# Altium footprint library CONN-TH_4P-P2.50_HCTL_HC-XHB-4A.PcbLib: 1 footprints
Each footprint in its own frame and in the unit in brackets; x right, y up, seen from the top. Pads: shape width x height; smd on the part's side, far side on the other; paste and mask are expansions set on the pad; w line width, h text height; cw(c..) or ccw(c..) is an arc to the next point about the centre after c.
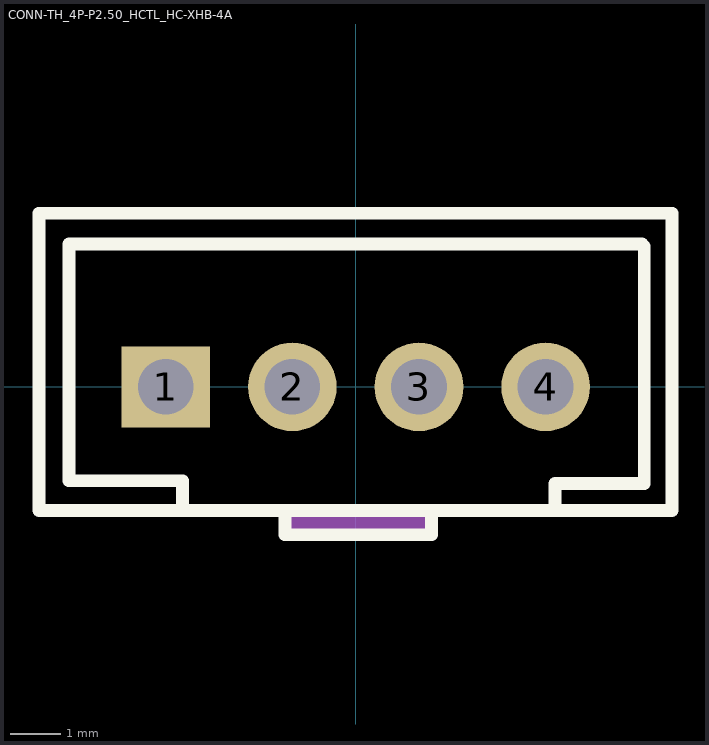
[diagram p0: the footprint, top view; thin cyan lines are the x and y axes]

## CONN-TH_4P-P2.50_HCTL_HC-XHB-4A [mm]
pads (4):
  rect 1.75x1.6 / inner round 1.524 / far side round 1.524 hole 1.1: 1(-3.75,0)
  round 1.75 / inner round 1.524 / far side round 1.524 hole 1.1: 2(-1.25,0) 3(1.25,0) 4(3.75,0)
Top Overlay:
  lines w0.254: -6.25,-2.438 6.25,-2.444 6.25,3.429 -6.25,3.429 ; -6.25,-2.432 -6.25,3.368 ; -5.657,2.819 -5.657,-1.854 -3.422,-1.854 -3.422,-2.388 ; -5.652,2.819 5.652,2.819 ; -1.397,-2.441 -1.397,-2.921 1.499,-2.921 1.499,-2.44 ; 3.937,-2.438 3.937,-1.905 5.664,-1.905 ; 5.699,-1.905 5.699,2.774
Mechanical 6:
  region: -1.397,-2.413 1.524,-2.413 1.524,-2.921 -1.397,-2.921
Mechanical 15:
  region: -6.185,-2.417 -6.204,-2.371 -6.25,-2.352 -6.296,-2.371 -6.315,-2.417 -6.296,-2.463 -6.25,-2.482 -6.204,-2.463
  region: -4.07,0.32 -3.43,0.32 -3.43,-0.32 -4.07,-0.32
  region: -1.57,0.32 -0.93,0.32 -0.93,-0.32 -1.57,-0.32
  region: 0.93,0.32 1.57,0.32 1.57,-0.32 0.93,-0.32
  region: 3.43,0.32 4.07,0.32 4.07,-0.32 3.43,-0.32
  lines w0.051: -6.25,-2.417 6.25,-2.417 6.25,3.383 -6.25,3.383 -6.25,-2.417